# EAGLE library part HEADER-11 (library homemade-hardware)
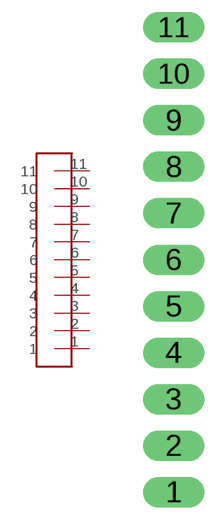
[diagram p7: symbol with the pads of HEADER-11; footprint HEADER-11]

Designator prefix -

## HEADER-11  [HEADER-11]
1  1
2  2
3  3
4  4
5  5
6  6
7  7
8  8
9  9
10  10
11  11

## Footprint HEADER-11 (pad centres in mm)
drill 1.016 pad 1.676 long: 1 0,0; 2 0,2.54; 3 0,5.08; 4 0,7.62; 5 0,10.16; 6 0,12.7; 7 0,15.24; 8 0,17.78; 9 0,20.32; 10 0,22.86; 11 0,25.4